# Altium footprint library NZ2520SH-24M.PcbLib: 1 footprints
Each footprint in its own frame and in the unit in brackets; x right, y up, seen from the top. Pads: shape width x height; smd on the part's side, far side on the other; paste and mask are expansions set on the pad; w line width, h text height; cw(c..) or ccw(c..) is an arc to the next point about the centre after c.
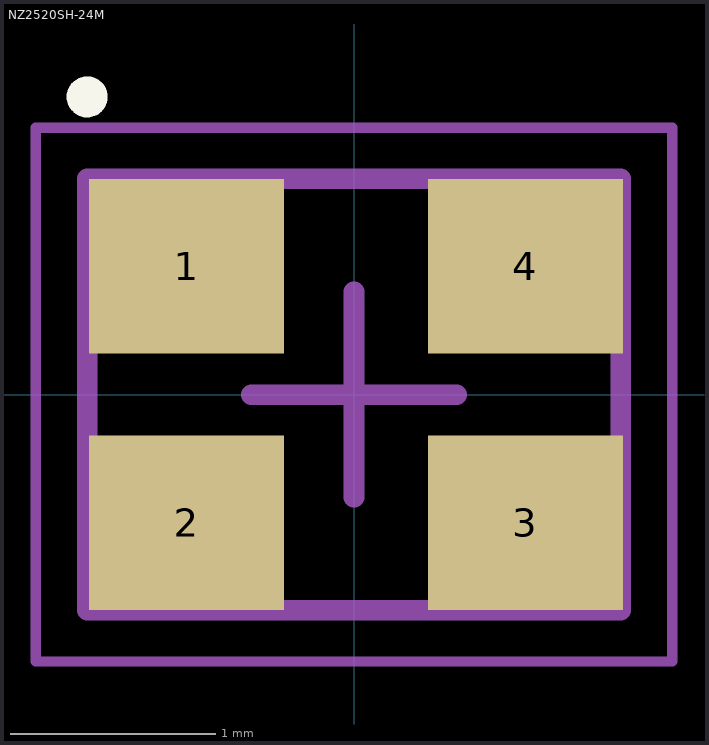
[diagram p0: the footprint, top view; thin cyan lines are the x and y axes]

## NZ2520SH-24M [mm]
height 0.9
pads (4):
  rect 0.95x0.85 smd: 1(-0.815,0.625) 2(-0.815,-0.625) 3(0.835,-0.625) 4(0.835,0.625)
Top Overlay:
  circle w0.1: c-1.3,1.45 r0.05
Top Assembly:
  lines w0.1: -1.3,-1.05 1.3,-1.05 1.3,1.05 -1.3,1.05 -1.3,-1.05
Top Courtyard:
  lines w0.05: -1.55,-1.3 1.55,-1.3 1.55,1.3 -1.55,1.3 -1.55,-1.3
  lines w0.1: -0.5,0 0.5,0 ; 0,-0.5 0,0.5
3D body: height 0.9, standoff 0, extent -1.3,-1.05 1.3,1.05